# EAGLE library part VNH5XXX_HBRIDGE (library MRDT-PowerICs)
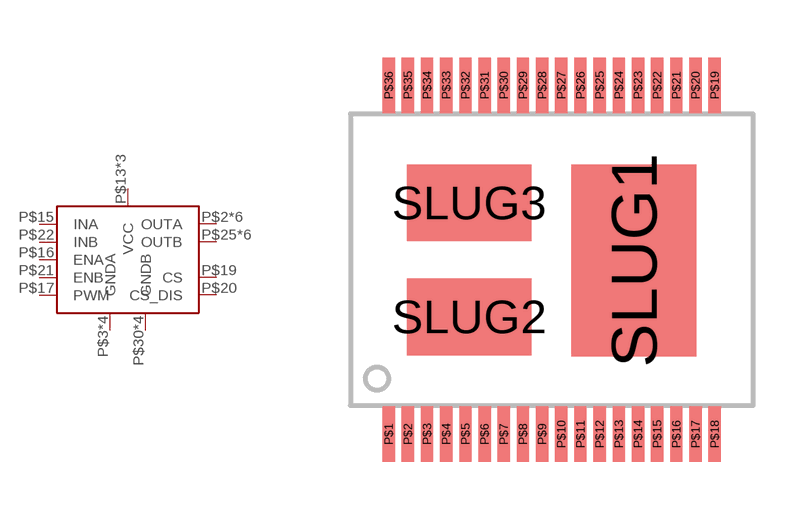
[diagram p0: symbol with the pads of POWERSSO-36_TP; footprint POWERSSO-36_TP]

Designator prefix -

## VNH5XXX_HBRIDGEVNH5180A  [POWERSSO-36_TP]
P$2  OUTA
P$3  GNDA
P$4  GNDA
P$6  GNDA
P$7  GNDA
P$8  OUTA
P$10  OUTA
P$11  OUTA
P$12  OUTA
P$13  VCC
P$15  INA
P$16  ENA
P$17  PWM
P$19  CS
P$20  CS_DIS
P$21  ENB
P$22  INB
P$24  VCC
P$25  OUTB
P$26  OUTB
P$27  OUTB
P$29  OUTB
P$30  GNDB
P$31  GNDB
P$33  GNDB
P$34  GNDB
P$35  OUTB
SLUG1  VCC
SLUG2  OUTA
SLUG3  OUTB

## VNH5XXX_HBRIDGEVNH5050A  [POWERSSO-36_TP]
P$1  GNDA
P$2  OUTA
P$3  GNDA
P$4  GNDA
P$5  GNDA
P$6  GNDA
P$7  GNDA
P$8  OUTA
P$9  OUTA
P$10  OUTA
P$11  OUTA
P$12  OUTA
P$13  VCC
P$14  OUTA
P$15  INA
P$16  ENA
P$17  PWM
P$19  CS
P$20  CS_DIS
P$21  ENB
P$22  INB
P$23  OUTB
P$24  VCC
P$25  OUTB
P$26  OUTB
P$27  OUTB
P$28  OUTB
P$29  OUTB
P$30  GNDB
P$31  GNDB
P$32  GNDB
P$33  GNDB
P$34  GNDB
P$35  OUTB
P$36  GNDB
SLUG1  VCC
SLUG2  OUTA
SLUG3  OUTB

## Footprint POWERSSO-36_TP (pad centres in mm)
This has been modified to have thinner pads per Sierra Circuits fabrication requirements
smd 0.322 x 1.45: P$1 1,-0.75; P$2 1.5,-0.75; P$3 2,-0.75; P$4 2.5,-0.75; P$5 3,-0.75; P$6 3.5,-0.75; P$7 4,-0.75; P$8 4.5,-0.75; P$9 5,-0.75; P$10 5.5,-0.75; P$11 6,-0.75; P$12 6.5,-0.75; P$13 7,-0.75; P$14 7.5,-0.75; P$15 8,-0.75; P$16 8.5,-0.75; P$17 9,-0.75; P$18 9.5,-0.75; P$19 9.5,8.35; P$20 9,8.35; P$21 8.5,8.35; P$22 8,8.35; P$23 7.5,8.35; P$24 7,8.35; P$25 6.5,8.35; P$26 6,8.35; P$27 5.5,8.35; P$28 5,8.35; P$29 4.5,8.35; P$30 4,8.35; P$31 3.5,8.35; P$32 3,8.35; P$33 2.5,8.35; P$34 2,8.35; P$35 1.5,8.35; P$36 1,8.35
smd 3.25 x 5: SLUG1 7.391,3.785
smd 3.25 x 2: SLUG2 3.099,2.311; SLUG3 3.099,5.283